# Altium schematic symbol library Connectors.SchLib: 38 symbols
Pins are listed as number, name and electrical type; pins without a type are passive.

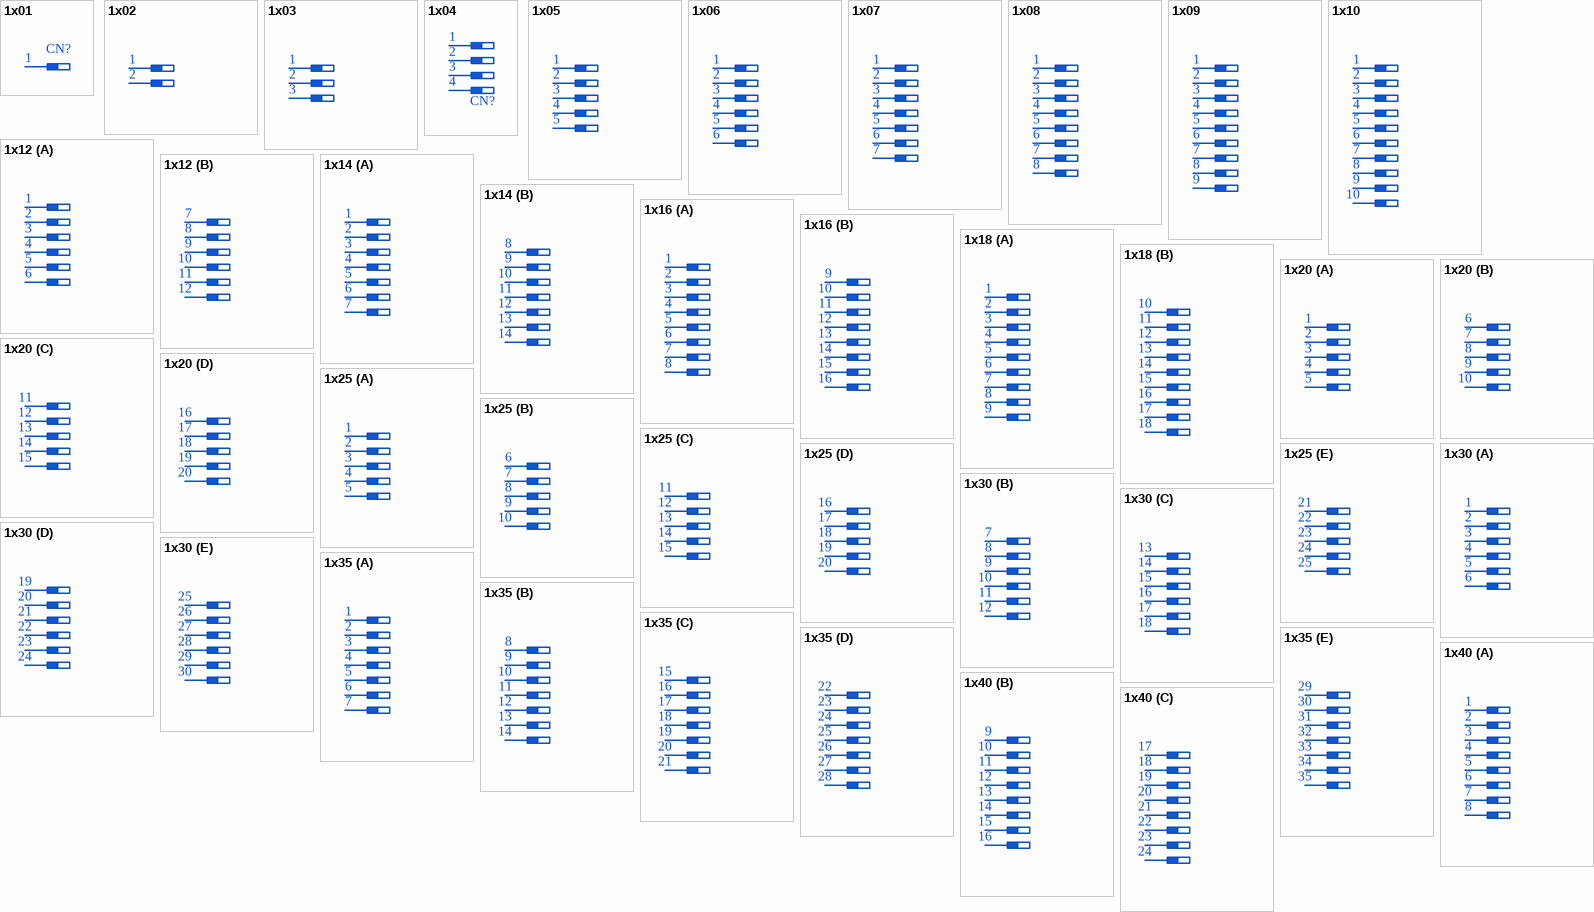
[diagram p0: symbols 1x01 to 1x40]

## 1x01
designator CN?
Name: DS1021; Case: DNP; Part Number: N/A
footprint _1-PAD (1.8mm x 1.8mm / 1mm)
footprint 1X1F-H8.5MM (DS1021)
footprint 1X1F-H15MM (DS1021)
footprint 1X1F-S2MM-H8MM (DS1025-01)
footprint 1X1F-S2MM-H12.2MM (DS1025-01)
footprint 1X1FR-H6MM-L6MM (DS1022)
footprint 1X1FR-S2MM-H4.5MM-L6MM (DS1025-19)
footprint 1X1M-H5MM (DS1023)
footprint 1X1M-H8.5MM (DS1023)
footprint 1X1M-S2MM-H4.3MM (DS1026-01)
footprint 1X1MR-H5.8MM-L10.2MM (DS1024)
footprint 1X1MR-S2MM-H2.8MM-L4.3MM (DS1026-02)
footprint 1X1P
footprint 1X1P-S2MM
pins: 1

## 1x02
designator CN?
Name: DS1021; Case: DNP; Part Number: N/A
footprint H2-3.5
footprint CWF-2R-2.50
footprint XH2.54-2PIN
footprint H2-5.08 - WIDTH
footprint _2-PAD-1L
footprint _2-PAD-TH
footprint 2X1F-H8.5MM (DS1021)
footprint 2X1F-H15MM (DS1021)
footprint 2X1F-S2MM-H8MM (DS1025-01)
footprint 2X1F-S2MM-H12.2MM (DS1025-01)
footprint 2X1FR-H6MM-L6MM (DS1022)
footprint 2X1FR-S2MM-H4.5MM-L6MM (DS1025-19)
footprint 2X1M-H5MM (DS1023)
footprint 2X1M-H8.5MM (DS1023)
footprint 2X1M-S2MM-H4.3MM (DS1026-01)
footprint 2X1MR-H5.8MM-L10.2MM (DS1024)
footprint 2X1MR-S2MM-H2.8MM-L4.3MM (DS1026-02)
footprint 2X1P
footprint 2X1P-S2MM
footprint 530480210 (Molex; Step - 1.25mm)
footprint KLS-128I-5.00-02P
footprint KLS-128I-5.08-02P
footprint B2B-XH-A-2.54
footprint S2B-XH-A-2.54
pins: 1, 2

## 1x03
designator CN?
Name: DS1021; Case: DNP; Part Number: N/A
footprint H3-3.5
footprint CWF-3R-2.50
footprint XH2.54-3PIN
footprint _3-PAD-1L
footprint _3-PAD-TH
footprint 3X1F-H8.5MM (DS1021)
footprint 3X1F-H15MM (DS1021)
footprint 3X1F-S2MM-H8MM (DS1025-01)
footprint 3X1F-S2MM-H12.2MM (DS1025-01)
footprint 3X1FR-H6MM-L6MM (DS1022)
footprint 3X1FR-S2MM-H4.5MM-L6MM (DS1025-19)
footprint 3X1M-H5MM (DS1023)
footprint 3X1M-H8.5MM (DS1023)
footprint 3X1M-S2MM-H4.3MM (DS1026-01)
footprint 3X1MR-H5.8MM-L10.2MM (DS1024)
footprint 3X1MR-S2MM-H2.8MM-L4.3MM (DS1026-02)
footprint 3X1P
footprint 3X1P-S2MM
footprint 530480310 (Molex; Step - 1.25mm)
footprint KLS-128I-5.00-03P
footprint KLS-128I-5.08-03P
footprint B3B-XH-A-2.54
footprint S3B-XH-A-2.54
pins: 1, 2, 3

## 1x04
designator CN?
Name: DS1021; Case: DNP; Part Number: N/A
footprint CWF-4R-2.50
footprint XH2.54-4PIN
footprint A1501-I-SMT-04AW ((S4B-ZR-SM4A-TF))
footprint 4X1F-H8.5MM (DS1021)
footprint 4X1F-H15MM (DS1021)
footprint 4X1F-S2MM-H8MM (DS1025-01)
footprint 4X1F-S2MM-H12.2MM (DS1025-01)
footprint 4X1FR-H6MM-L6MM (DS1022)
footprint 4X1FR-S2MM-H4.5MM-L6MM (DS1025-19)
footprint 4X1M-H5MM (DS1023)
footprint 4X1M-H8.5MM (DS1023)
footprint 4X1MR-H5.8MM-L10.2MM (DS1024)
footprint 4X1MR-S2MM-H2.8MM-L4.3MM (DS1026-02)
footprint 4X1P
footprint 4X1P-S2MM
footprint 4X1M-S2MM-H4.3MM (DS1026-01)
footprint 530480410 (Molex; Step - 1.25mm)
footprint PT-419-01X4
footprint B4B-XH-A-2.54
footprint S4B-XH-A-2.54
pins: 1, 2, 3, 4

## 1x05
designator CN?
Name: DS1021; Case: DNP; Part Number: N/A
footprint 5X1F-H8.5MM (DS1021)
footprint 5X1F-H15MM (DS1021)
footprint 5X1F-S2MM-H8MM (DS1025-01)
footprint 5X1F-S2MM-H12.2MM (DS1025-01)
footprint 5X1FR-H6MM-L6MM (DS1022)
footprint 5X1FR-S2MM-H4.5MM-L6MM (DS1025-19)
footprint 5X1M-H5MM (DS1023)
footprint 5X1M-H8.5MM (DS1023)
footprint 5X1M-S2MM-H4.3MM (DS1026-01)
footprint 5X1MR-H5.8MM-L10.2MM (DS1024)
footprint 5X1MR-S2MM-H2.8MM-L4.3MM (DS1026-02)
footprint 5X1P
footprint 5X1P-S2MM
footprint B5B-XH-A-2.54
footprint S5B-XH-A-2.54
pins: 1, 2, 3, 4, 5

## 1x06
designator CN?
Name: DS1021; Case: DNP; Part Number: N/A
footprint 6X1F-H8.5MM (DS1021)
footprint 6X1F-H15MM (DS1021)
footprint 6X1F-S2MM-H8MM (DS1025-01)
footprint 6X1F-S2MM-H12.2MM (DS1025-01)
footprint 6X1FR-H6MM-L6MM (DS1022)
footprint 6X1FR-S2MM-H4.5MM-L6MM (DS1025-19)
footprint 6X1M-H5MM (DS1023)
footprint 6X1M-H8.5MM (DS1023)
footprint 6X1M-S2MM-H4.3MM (DS1026-01)
footprint 6X1MR-H5.8MM-L10.2MM (DS1024)
footprint 6X1MR-S2MM-H2.8MM-L4.3MM (DS1026-02)
footprint 6X1P
footprint 6X1P-S2MM
footprint B6B-XH-A-2.54
footprint S6B-XH-A-2.54
pins: 1, 2, 3, 4, 5, 6

## 1x07
designator CN?
Name: DS1021; Case: DNP; Part Number: N/A
footprint 7X1F-H8.5MM (DS1021)
footprint 7X1F-H15MM (DS1021)
footprint 7X1F-S2MM-H8MM (DS1025-01)
footprint 7X1F-S2MM-H12.2MM (DS1025-01)
footprint 7X1FR-H6MM-L6MM (DS1022)
footprint 7X1FR-S2MM-H4.5MM-L6MM (DS1025-19)
footprint 7X1M-H5MM (DS1023)
footprint 7X1M-H8.5MM (DS1023)
footprint 7X1M-S2MM-H4.3MM (DS1026-01)
footprint 7X1MR-H5.8MM-L10.2MM (DS1024)
footprint 7X1MR-S2MM-H2.8MM-L4.3MM (DS1026-02)
footprint 7X1P
footprint 7X1P-S2MM
footprint B7B-XH-A-2.54
footprint S7B-XH-A-2.54
pins: 1, 2, 3, 4, 5, 6, 7

## 1x08
designator CN?
Name: DS1021; Case: DNP; Part Number: N/A
footprint FPC-8-S1MM
footprint 8X1F-H8.5MM (DS1021)
footprint 8X1F-H15MM (DS1021)
footprint 8X1F-S2MM-H8MM (DS1025-01)
footprint 8X1F-S2MM-H12.2MM (DS1025-01)
footprint 8X1FR-H6MM-L6MM (DS1022)
footprint 8X1FR-S2MM-H4.5MM-L6MM (DS1025-19)
footprint 8X1M-H5MM (DS1023)
footprint 8X1M-H8.5MM (DS1023)
footprint 8X1MR-H5.8MM-L10.2MM (DS1024)
footprint 8X1MR-S2MM-H2.8MM-L4.3MM (DS1026-02)
footprint 8X1P
footprint 8X1P-S2MM
footprint 8X1M-S2MM-H4.3MM (DS1026-01)
footprint B8B-XH-A-2.54
footprint S8B-XH-A-2.54
pins: 1, 2, 3, 4, 5, 6, 7, 8

## 1x09
designator CN?
Name: DS1021; Case: DNP; Part Number: N/A
footprint 9X1F-H8.5MM (DS1021)
footprint 9X1F-H15MM (DS1021)
footprint 9X1F-S2MM-H8MM (DS1025-01)
footprint 9X1F-S2MM-H12.2MM (DS1025-01)
footprint 9X1FR-H6MM-L6MM (DS1022)
footprint 9X1FR-S2MM-H4.5MM-L6MM (DS1025-19)
footprint 9X1M-H5MM (DS1023)
footprint 9X1M-H8.5MM (DS1023)
footprint 9X1M-S2MM-H4.3MM (DS1026-01)
footprint 9X1MR-H5.8MM-L10.2MM (DS1024)
footprint 9X1MR-S2MM-H2.8MM-L4.3MM (DS1026-02)
footprint 9X1P
footprint 9X1P-S2MM
footprint B9B-XH-A-2.54
footprint S9B-XH-A-2.54
pins: 1, 2, 3, 4, 5, 6, 7, 8, 9

## 1x10
designator CN?
Name: DS1021; Case: DNP; Part Number: N/A
footprint 10X1F-H8.5MM (DS1021)
footprint 10X1F-H15MM (DS1021)
footprint 10X1F-S2MM-H8MM (DS1025-01)
footprint 10X1F-S2MM-H12.2MM (DS1025-01)
footprint 10X1FR-H6MM-L6MM (DS1022)
footprint 10X1FR-S2MM-H4.5MM-L6MM (DS1025-19)
footprint 10X1M-H5MM (DS1023)
footprint 10X1M-H8.5MM (DS1023)
footprint 10X1M-S2MM-H4.3MM (DS1026-01)
footprint 10X1MR-H5.8MM-L10.2MM (DS1024)
footprint 10X1MR-S2MM-H2.8MM-L4.3MM (DS1026-02)
footprint 10X1P
footprint 10X1P-S2MM
footprint B10B-XH-A-2.54
footprint S10B-XH-A-2.54
pins: 1, 2, 3, 4, 5, 6, 7, 8, 9, 10

## 1x12
designator CN?
Name: DS1021; Case: DNP; Part Number: N/A
footprint 12X1F-H8.5MM (DS1021)
footprint 12X1F-H15MM (DS1021)
footprint 12X1F-S2MM-H8MM (DS1025-01)
footprint 12X1F-S2MM-H12.2MM (DS1025-01)
footprint 12X1FR-H6MM-L6MM (DS1022)
footprint 12X1FR-S2MM-H4.5MM-L6MM (DS1025-19)
footprint 12X1M-H5MM (DS1023)
footprint 12X1M-H8.5MM (DS1023)
footprint 12X1M-S2MM-H4.3MM (DS1026-01)
footprint 12X1MR-H5.8MM-L10.2MM (DS1024)
footprint 12X1MR-S2MM-H2.8MM-L4.3MM (DS1026-02)
footprint 12X1P
footprint 12X1P-S2MM
part A pins: 1, 2, 3, 4, 5, 6
part B pins: 7, 8, 9, 10, 11, 12

## 1x14
designator CN?
Name: DS1021; Case: DNP; Part Number: N/A
footprint 14X1F-H8.5MM (DS1021)
footprint 14X1F-H15MM (DS1021)
footprint 14X1F-S2MM-H8MM (DS1025-01)
footprint 14X1F-S2MM-H12.2MM (DS1025-01)
footprint 14X1FR-H6MM-L6MM (DS1022)
footprint 14X1FR-S2MM-H4.5MM-L6MM (DS1025-19)
footprint 14X1M-H5MM (DS1023)
footprint 14X1M-H8.5MM (DS1023)
footprint 14X1M-S2MM-H4.3MM (DS1026-01)
footprint 14X1MR-H5.8MM-L10.2MM (DS1024)
footprint 14X1MR-S2MM-H2.8MM-L4.3MM (DS1026-02)
footprint 14X1P
footprint 14X1P-S2MM
part A pins: 1, 2, 3, 4, 5, 6, 7
part B pins: 8, 9, 10, 11, 12, 13, 14

## 1x16
designator CN?
Name: DS1021; Case: DNP; Part Number: N/A
footprint 16X1F-H8.5MM (DS1021)
footprint 16X1F-H15MM (DS1021)
footprint 16X1F-S2MM-H8MM (DS1025-01)
footprint 16X1F-S2MM-H12.2MM (DS1025-01)
footprint 16X1FR-H6MM-L6MM (DS1022)
footprint 16X1FR-S2MM-H4.5MM-L6MM (DS1025-19)
footprint 16X1M-H5MM (DS1023)
footprint 16X1M-H8.5MM (DS1023)
footprint 16X1M-S2MM-H4.3MM (DS1026-01)
footprint 16X1MR-H5.8MM-L10.2MM (DS1024)
footprint 16X1MR-S2MM-H2.8MM-L4.3MM (DS1026-02)
footprint 16X1P
footprint 16X1P-S2MM
part A pins: 1, 2, 3, 4, 5, 6, 7, 8
part B pins: 9, 10, 11, 12, 13, 14, 15, 16

## 1x18
designator CN?
Name: DS1021; Case: DNP; Part Number: N/A
footprint 18X1F-H8.5MM (DS1021)
footprint 18X1F-H15MM (DS1021)
footprint 18X1F-S2MM-H8MM (DS1025-01)
footprint 18X1F-S2MM-H12.2MM (DS1025-01)
footprint 18X1FR-H6MM-L6MM (DS1022)
footprint 18X1FR-S2MM-H4.5MM-L6MM (DS1025-19)
footprint 18X1M-H5MM (DS1023)
footprint 18X1M-H8.5MM (DS1023)
footprint 18X1M-S2MM-H4.3MM (DS1026-01)
footprint 18X1MR-H5.8MM-L10.2MM (DS1024)
footprint 18X1MR-S2MM-H2.8MM-L4.3MM (DS1026-02)
footprint 18X1P
footprint 18X1P-S2MM
part A pins: 1, 2, 3, 4, 5, 6, 7, 8, 9
part B pins: 10, 11, 12, 13, 14, 15, 16, 17, 18

## 1x20
designator CN?
Name: DS1021; Case: DNP; Part Number: N/A
footprint 20X1F-H8.5MM (DS1021)
footprint 20X1F-H15MM (DS1021)
footprint 20X1F-S2MM-H8MM (DS1025-01)
footprint 20X1F-S2MM-H12.2MM (DS1025-01)
footprint 20X1FR-H6MM-L6MM (DS1022)
footprint 20X1FR-S2MM-H4.5MM-L6MM (DS1025-19)
footprint 20X1M-H5MM (DS1023)
footprint 20X1M-H8.5MM (DS1023)
footprint 20X1M-S2MM-H4.3MM (DS1026-01)
footprint 20X1MR-H5.8MM-L10.2MM (DS1024)
footprint 20X1MR-S2MM-H2.8MM-L4.3MM (DS1026-02)
footprint 20X1P
footprint 20X1P-S2MM
part A pins: 1, 2, 3, 4, 5
part B pins: 6, 7, 8, 9, 10
part C pins: 11, 12, 13, 14, 15
part D pins: 16, 17, 18, 19, 20

## 1x25
designator CN?
Name: DS1021; Case: DNP; Part Number: N/A
footprint 25X1F-H8.5MM (DS1021)
footprint 25X1F-H15MM (DS1021)
footprint 25X1F-S2MM-H8MM (DS1025-01)
footprint 25X1F-S2MM-H12.2MM (DS1025-01)
footprint 25X1FR-H6MM-L6MM (DS1022)
footprint 25X1FR-S2MM-H4.5MM-L6MM (DS1025-19)
footprint 25X1M-H5MM (DS1023)
footprint 25X1M-H8.5MM (DS1023)
footprint 25X1M-S2MM-H4.3MM (DS1026-01)
footprint 25X1MR-H5.8MM-L10.2MM (DS1024)
footprint 25X1MR-S2MM-H2.8MM-L4.3MM (DS1026-02)
footprint 25X1P
footprint 25X1P-S2MM
part A pins: 1, 2, 3, 4, 5
part B pins: 6, 7, 8, 9, 10
part C pins: 11, 12, 13, 14, 15
part D pins: 16, 17, 18, 19, 20
part E pins: 21, 22, 23, 24, 25

## 1x30
designator CN?
Name: DS1021; Case: DNP; Part Number: N/A
footprint 30X1F-H8.5MM (DS1021)
footprint 30X1F-H15MM (DS1021)
footprint 30X1F-S2MM-H8MM (DS1025-01)
footprint 30X1F-S2MM-H12.2MM (DS1025-01)
footprint 30X1FR-H6MM-L6MM (DS1022)
footprint 30X1FR-S2MM-H4.5MM-L6MM (DS1025-19)
footprint 30X1M-H5MM (DS1023)
footprint 30X1M-H8.5MM (DS1023)
footprint 30X1M-S2MM-H4.3MM (DS1026-01)
footprint 30X1MR-H5.8MM-L10.2MM (DS1024)
footprint 30X1MR-S2MM-H2.8MM-L4.3MM (DS1026-02)
footprint 30X1P
footprint 30X1P-S2MM
part A pins: 1, 2, 3, 4, 5, 6
part B pins: 7, 8, 9, 10, 11, 12
part C pins: 13, 14, 15, 16, 17, 18
part D pins: 19, 20, 21, 22, 23, 24
part E pins: 25, 26, 27, 28, 29, 30

## 1x35
designator CN?
Name: DS1021; Case: DNP; Part Number: N/A
footprint 35X1F-H8.5MM (DS1021)
footprint 35X1F-H15MM (DS1021)
footprint 35X1F-S2MM-H8MM (DS1025-01)
footprint 35X1F-S2MM-H12.2MM (DS1025-01)
footprint 35X1FR-H6MM-L6MM (DS1022)
footprint 35X1FR-S2MM-H4.5MM-L6MM (DS1025-19)
footprint 35X1M-H5MM (DS1023)
footprint 35X1M-H8.5MM (DS1023)
footprint 35X1M-S2MM-H4.3MM (DS1026-01)
footprint 35X1MR-H5.8MM-L10.2MM (DS1024)
footprint 35X1MR-S2MM-H2.8MM-L4.3MM (DS1026-02)
footprint 35X1P
footprint 35X1P-S2MM
part A pins: 1, 2, 3, 4, 5, 6, 7
part B pins: 8, 9, 10, 11, 12, 13, 14
part C pins: 15, 16, 17, 18, 19, 20, 21
part D pins: 22, 23, 24, 25, 26, 27, 28
part E pins: 29, 30, 31, 32, 33, 34, 35

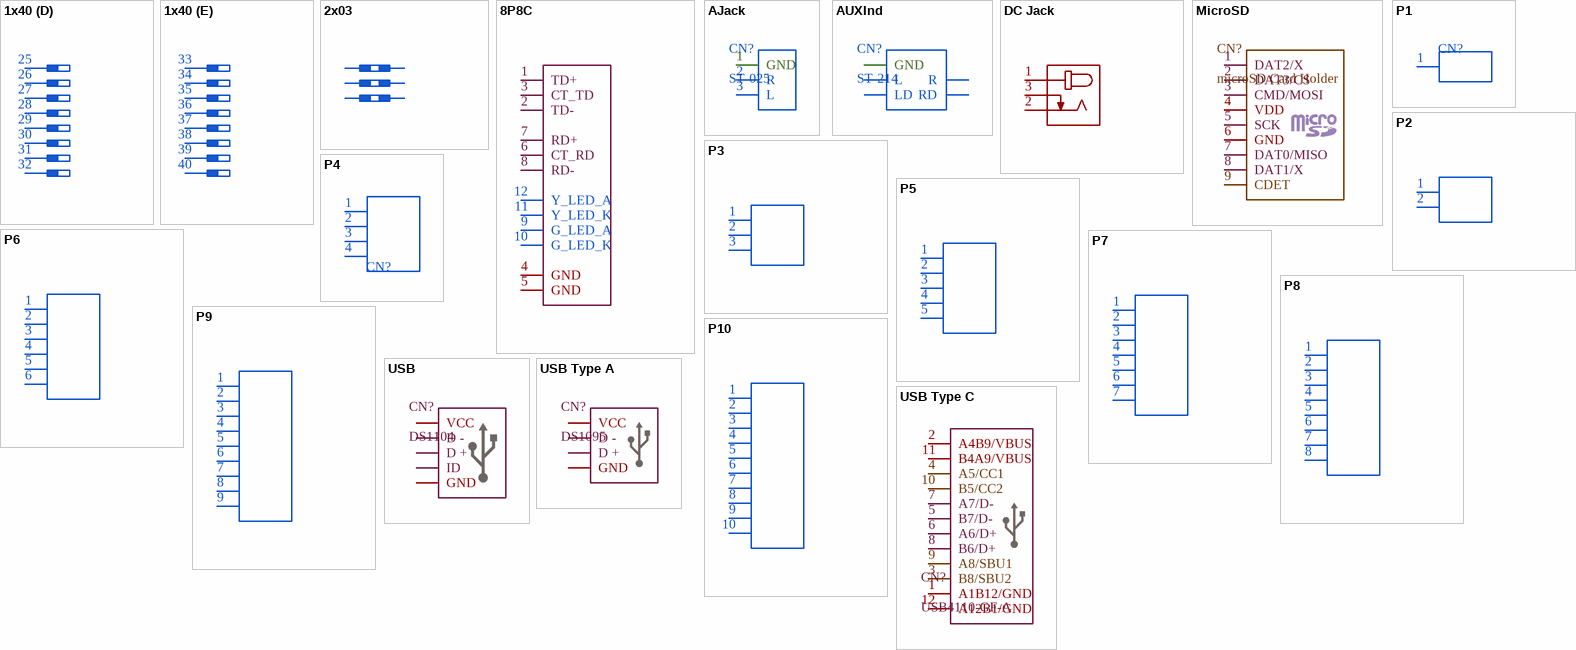
[diagram p1: symbols 1x40 to USB Type C]

## 1x40
designator CN?
Name: DS1021; Case: DNP; Part Number: N/A
footprint 40X1F-H8.5MM (DS1021)
footprint 1X1F-H15MM (DS1021)
footprint 40X1F-S2MM-H8MM (DS1025-01)
footprint 40X1F-S2MM-H12.2MM (DS1025-01)
footprint 40X1FR-H6MM-L6MM (DS1022)
footprint 40X1FR-S2MM-H4.5MM-L6MM (DS1025-19)
footprint 40X1M-H5MM (DS1023)
footprint 40X1M-H8.5MM (DS1023)
footprint 40X1M-S2MM-H4.3MM (DS1026-01)
footprint 40X1MR-H5.8MM-L10.2MM (DS1024)
footprint 40X1MR-S2MM-H2.8MM-L4.3MM (DS1026-02)
footprint 40X1P
footprint 40X1P-S2MM
part A pins: 1, 2, 3, 4, 5, 6, 7, 8
part B pins: 9, 10, 11, 12, 13, 14, 15, 16
part C pins: 17, 18, 19, 20, 21, 22, 23, 24
part D pins: 25, 26, 27, 28, 29, 30, 31, 32
part E pins: 33, 34, 35, 36, 37, 38, 39, 40

## 2x03
designator CN?
Name: DS1021; Case: DNP; Part Number: N/A
footprint 2X3F-H8.5MM
pins: 1, 2, 3, 4, 5, 6

## 8P8C
designator CN?, comment KLS12-TL051
RJ45; Name: KLS12-TL051; Case: DNP; Part Number: N/A
footprint KLS12-TL051
pins: 1 TD+, 2 TD-, 3 CT_TD, 4 GND, 5 GND, 6 CT_RD, 7 RD+, 8 RD-, 9 G_LED_A, 10 G_LED_K, 11 Y_LED_K, 12 Y_LED_A

## AJack
designator CN?, comment ST-025
Name: ST-025; Case: DNP; Part Number: N/A
footprint ST-214
footprint ST-025
pins: 1 GND, 2 R, 3 L

## AUXInd
designator CN?, comment ST-214
Name: ST-214; Case: DNP; Part Numbert: N/A
footprint ST-214
pins: 1 GND, 2 R, 3 L, 4 RD, 5 LD

## DC Jack
designator CN?, comment DS-210B
Name: DS-210B
footprint DC-JACK-D6.5MM
pins: 1, 2, 3

## MicroSD
designator CN?, comment microSD Card Holder
Name: microSD Card Holder; Case: DNP; Part Number: N/A
footprint MICRO_SD_CARD_SLOT
pins: 1 DAT2/X, 2 DAT3/CS, 3 CMD/MOSI, 4 VDD, 5 SCK, 6 GND, 7 DAT0/MISO, 8 DAT1/X, 9 CDET

## P1
designator CN?
Name: DS1021; Case: DNP; Part Number: N/A
footprint _1-PAD (1.8mm x 1.8mm / 1mm)
footprint 1X1F-H8.5MM (DS1021)
footprint 1X1F-H15MM (DS1021)
footprint 1X1F-S2MM-H8MM (DS1025-01)
footprint 1X1F-S2MM-H12.2MM (DS1025-01)
footprint 1X1FR-H6MM-L6MM (DS1022)
footprint 1X1FR-S2MM-H4.5MM-L6MM (DS1025-19)
footprint 1X1M-H5MM (DS1023)
footprint 1X1M-H8.5MM (DS1023)
footprint 1X1M-S2MM-H4.3MM (DS1026-01)
footprint 1X1MR-H5.8MM-L10.2MM (DS1024)
footprint 1X1MR-S2MM-H2.8MM-L4.3MM (DS1026-02)
footprint 1X1P
footprint 1X1P-S2MM
pins: 1

## P2
designator CN?
Name: DS1021; Case: DNP; Part Number: N/A
footprint H2-3.5
footprint CWF-2R-2.50
footprint XH2.54-2PIN
footprint H2-5.08 - WIDTH
footprint _2-PAD-1L
footprint _2-PAD-TH
footprint 2X1F-H8.5MM (DS1021)
footprint 2X1F-H15MM (DS1021)
footprint 2X1F-S2MM-H8MM (DS1025-01)
footprint 2X1F-S2MM-H12.2MM (DS1025-01)
footprint 2X1FR-H6MM-L6MM (DS1022)
footprint 2X1FR-S2MM-H4.5MM-L6MM (DS1025-19)
footprint 2X1M-H5MM (DS1023)
footprint 2X1M-H8.5MM (DS1023)
footprint 2X1M-S2MM-H4.3MM (DS1026-01)
footprint 2X1MR-H5.8MM-L10.2MM (DS1024)
footprint 2X1MR-S2MM-H2.8MM-L4.3MM (DS1026-02)
footprint 2X1P
footprint 2X1P-S2MM
footprint 530480210 (Molex; Step - 1.25mm)
pins: 1, 2

## P3
designator CN?
Name: DS1021; Case: DNP; Part Number: N/A
footprint H3-3.5
footprint CWF-3R-2.50
footprint XH2.54-3PIN
footprint _3-PAD-1L
footprint _3-PAD-TH
footprint 3X1F-H8.5MM (DS1021)
footprint 3X1F-H15MM (DS1021)
footprint 3X1F-S2MM-H8MM (DS1025-01)
footprint 3X1F-S2MM-H12.2MM (DS1025-01)
footprint 3X1FR-H6MM-L6MM (DS1022)
footprint 3X1FR-S2MM-H4.5MM-L6MM (DS1025-19)
footprint 3X1M-H5MM (DS1023)
footprint 3X1M-H8.5MM (DS1023)
footprint 3X1M-S2MM-H4.3MM (DS1026-01)
footprint 3X1MR-H5.8MM-L10.2MM (DS1024)
footprint 3X1MR-S2MM-H2.8MM-L4.3MM (DS1026-02)
footprint 3X1P
footprint 3X1P-S2MM
footprint 530480310 (Molex; Step - 1.25mm)
footprint KLS-128I-5.00-03P
footprint KLS-128I-5.08-03P
footprint B3B-XH-A-2.54
footprint S3B-XH-A-2.54
pins: 1, 2, 3

## P4
designator CN?
Name: DS1021; Case: DNP; Part Number: N/A
footprint CWF-4R-2.50
footprint XH2.54-4PIN
footprint A1501-I-SMT-04AW ((S4B-ZR-SM4A-TF))
footprint 4X1F-H8.5MM (DS1021)
footprint 4X1F-H15MM (DS1021)
footprint 4X1F-S2MM-H8MM (DS1025-01)
footprint 4X1F-S2MM-H12.2MM (DS1025-01)
footprint 4X1FR-H6MM-L6MM (DS1022)
footprint 4X1FR-S2MM-H4.5MM-L6MM (DS1025-19)
footprint 4X1M-H5MM (DS1023)
footprint 4X1M-H8.5MM (DS1023)
footprint 4X1MR-H5.8MM-L10.2MM (DS1024)
footprint 4X1MR-S2MM-H2.8MM-L4.3MM (DS1026-02)
footprint 4X1P
footprint 4X1P-S2MM
footprint 4X1M-S2MM-H4.3MM (DS1026-01)
footprint 530480410 (Molex; Step - 1.25mm)
footprint PT-419-01X4
footprint B4B-XH-A-2.54
footprint S4B-XH-A-2.54
pins: 1, 2, 3, 4

## P5
designator CN?
Name: DS1021; Case: DNP; Part Number: N/A
footprint 5X1F-H8.5MM (DS1021)
footprint 5X1F-H15MM (DS1021)
footprint 5X1F-S2MM-H8MM (DS1025-01)
footprint 5X1F-S2MM-H12.2MM (DS1025-01)
footprint 5X1FR-H6MM-L6MM (DS1022)
footprint 5X1FR-S2MM-H4.5MM-L6MM (DS1025-19)
footprint 5X1M-H5MM (DS1023)
footprint 5X1M-H8.5MM (DS1023)
footprint 5X1M-S2MM-H4.3MM (DS1026-01)
footprint 5X1MR-H5.8MM-L10.2MM (DS1024)
footprint 5X1MR-S2MM-H2.8MM-L4.3MM (DS1026-02)
footprint 5X1P
footprint 5X1P-S2MM
footprint B5B-XH-A-2.54
footprint S5B-XH-A-2.54
pins: 1, 2, 3, 4, 5

## P6
designator CN?
Name: DS1021; Case: DNP; Part Number: N/A
footprint 6X1F-H8.5MM (DS1021)
footprint 6X1F-H15MM (DS1021)
footprint 6X1F-S2MM-H8MM (DS1025-01)
footprint 6X1F-S2MM-H12.2MM (DS1025-01)
footprint 6X1FR-H6MM-L6MM (DS1022)
footprint 6X1FR-S2MM-H4.5MM-L6MM (DS1025-19)
footprint 6X1M-H5MM (DS1023)
footprint 6X1M-H8.5MM (DS1023)
footprint 6X1M-S2MM-H4.3MM (DS1026-01)
footprint 6X1MR-H5.8MM-L10.2MM (DS1024)
footprint 6X1MR-S2MM-H2.8MM-L4.3MM (DS1026-02)
footprint 6X1P
footprint 6X1P-S2MM
footprint B6B-XH-A-2.54
footprint S6B-XH-A-2.54
pins: 1, 2, 3, 4, 5, 6

## P7
designator CN?
Name: DS1021; Case: DNP; Part Number: N/A
footprint 7X1F-H8.5MM (DS1021)
footprint 7X1F-H15MM (DS1021)
footprint 7X1F-S2MM-H8MM (DS1025-01)
footprint 7X1F-S2MM-H12.2MM (DS1025-01)
footprint 7X1FR-H6MM-L6MM (DS1022)
footprint 7X1FR-S2MM-H4.5MM-L6MM (DS1025-19)
footprint 7X1M-H5MM (DS1023)
footprint 7X1M-H8.5MM (DS1023)
footprint 7X1M-S2MM-H4.3MM (DS1026-01)
footprint 7X1MR-H5.8MM-L10.2MM (DS1024)
footprint 7X1MR-S2MM-H2.8MM-L4.3MM (DS1026-02)
footprint 7X1P
footprint 7X1P-S2MM
footprint B7B-XH-A-2.54
footprint S7B-XH-A-2.54
pins: 1, 2, 3, 4, 5, 6, 7

## P8
designator CN?
Name: DS1021; Case: DNP; Part Number: N/A
footprint FPC-8-S1MM
footprint 8X1F-H8.5MM (DS1021)
footprint 8X1F-H15MM (DS1021)
footprint 8X1F-S2MM-H8MM (DS1025-01)
footprint 8X1F-S2MM-H12.2MM (DS1025-01)
footprint 8X1FR-H6MM-L6MM (DS1022)
footprint 8X1FR-S2MM-H4.5MM-L6MM (DS1025-19)
footprint 8X1M-H5MM (DS1023)
footprint 8X1M-H8.5MM (DS1023)
footprint 8X1MR-H5.8MM-L10.2MM (DS1024)
footprint 8X1MR-S2MM-H2.8MM-L4.3MM (DS1026-02)
footprint 8X1P
footprint 8X1P-S2MM
footprint 8X1M-S2MM-H4.3MM (DS1026-01)
footprint B8B-XH-A-2.54
footprint S8B-XH-A-2.54
pins: 1, 2, 3, 4, 5, 6, 7, 8

## P9
designator CN?
Name: DS1021; Case: DNP; Part Number: N/A
footprint 9X1F-H8.5MM (DS1021)
footprint 9X1F-H15MM (DS1021)
footprint 9X1F-S2MM-H8MM (DS1025-01)
footprint 9X1F-S2MM-H12.2MM (DS1025-01)
footprint 9X1FR-H6MM-L6MM (DS1022)
footprint 9X1FR-S2MM-H4.5MM-L6MM (DS1025-19)
footprint 9X1M-H5MM (DS1023)
footprint 9X1M-H8.5MM (DS1023)
footprint 9X1M-S2MM-H4.3MM (DS1026-01)
footprint 9X1MR-H5.8MM-L10.2MM (DS1024)
footprint 9X1MR-S2MM-H2.8MM-L4.3MM (DS1026-02)
footprint 9X1P
footprint 9X1P-S2MM
footprint B9B-XH-A-2.54
footprint S9B-XH-A-2.54
pins: 1, 2, 3, 4, 5, 6, 7, 8, 9

## P10
designator CN?
Name: DS1021; Case: DNP; Part Number: N/A
footprint 10X1F-H8.5MM (DS1021)
footprint 10X1F-H15MM (DS1021)
footprint 10X1F-S2MM-H8MM (DS1025-01)
footprint 10X1F-S2MM-H12.2MM (DS1025-01)
footprint 10X1FR-H6MM-L6MM (DS1022)
footprint 10X1FR-S2MM-H4.5MM-L6MM (DS1025-19)
footprint 10X1M-H5MM (DS1023)
footprint 10X1M-H8.5MM (DS1023)
footprint 10X1M-S2MM-H4.3MM (DS1026-01)
footprint 10X1MR-H5.8MM-L10.2MM (DS1024)
footprint 10X1MR-S2MM-H2.8MM-L4.3MM (DS1026-02)
footprint 10X1P
footprint 10X1P-S2MM
footprint B10B-XH-A-2.54
footprint S10B-XH-A-2.54
pins: 1, 2, 3, 4, 5, 6, 7, 8, 9, 10

## USB
designator CN?, comment DS1104
Name: DS1104; Case: DNP; Part Number: N/A
footprint USB-MICRO
footprint USB-MINI
pins: 1 GND, 2 ID, 3 D +, 4 D -, 5 VCC

## USB Type A
designator CN?, comment DS1095
Name: DS1095; Case: DNP; Part Number: N/A
footprint USB-TYPE-A
pins: 1 VCC, 2 D -, 3 D +, 4 GND

## USB Type C
designator CN?, comment USB4110-GF-A
Name: USB4110-GF-A; Case: DNP; Part Number: N/A
footprint USB-TYPE-C
pins: 1 A1B12/GND, 2 A4B9/VBUS, 3 B8/SBU2, 4 A5/CC1, 5 B7/D-, 6 A6/D+, 7 A7/D-, 8 B6/D+, 9 A8/SBU1, 10 B5/CC2, 11 B4A9/VBUS, 12 A12B1/GND